# Altium footprint library blackbox.PcbLib: 1 footprints
Each footprint in its own frame and in the unit in brackets; x right, y up, seen from the top. Pads: shape width x height; smd on the part's side, far side on the other; paste and mask are expansions set on the pad; w line width, h text height; cw(c..) or ccw(c..) is an arc to the next point about the centre after c.
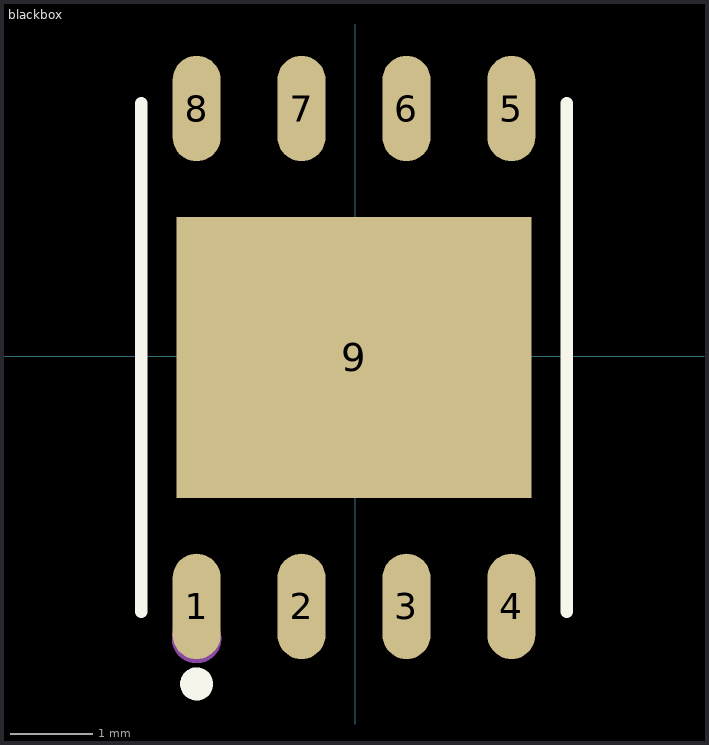
[diagram p0: the footprint, top view; thin cyan lines are the x and y axes]

## blackbox [mm]
pads (9):
  oval 0.581x1.276 smd paste+0 mask+0.051: 1(-1.92,-3.026) 2(-0.65,-3.026) 3(0.62,-3.026) 4(1.89,-3.026) 5(1.89,2.999) 6(0.62,2.999) 7(-0.65,2.999) 8(-1.92,2.999)
  rect 4.3x3.4 smd paste+0 mask+0.051: 9(-0.015,-0.013)
Top Overlay:
  circle w0.2: c-1.92,-3.964 r0.1
  lines w0.152: -2.591,-3.09 -2.591,3.063 ; 2.562,-3.09 2.562,3.063
Mechanical 15:
  circle w0.3: c-1.92,-3.414 r0.15